# Altium footprint library Fuses.PcbLib: 86 footprints (part 1 of 6)
Each footprint in its own frame and in the unit in brackets; x right, y up, seen from the top. Pads: shape width x height; smd on the part's side, far side on the other; paste and mask are expansions set on the pad; w line width, h text height; cw(c..) or ccw(c..) is an arc to the next point about the centre after c.
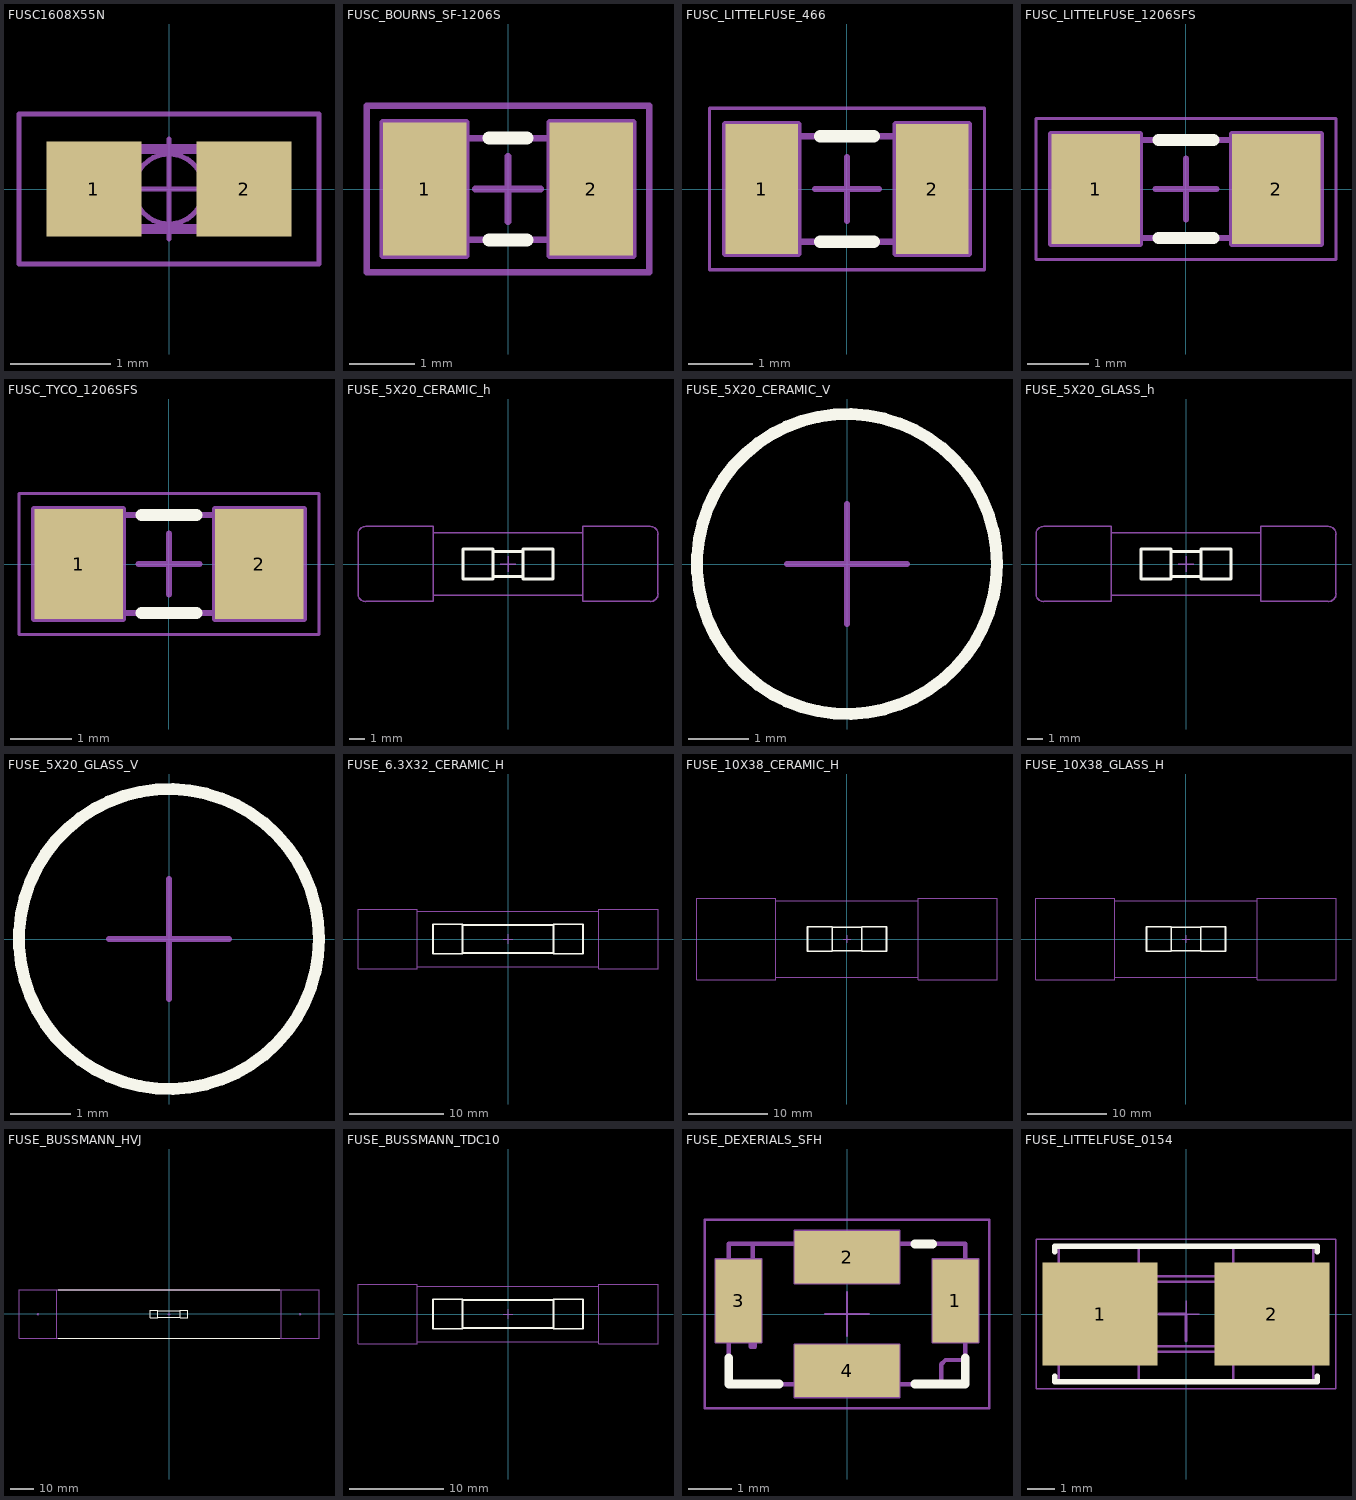
[diagram p0: the footprints below, top view; thin cyan lines are the x and y axes]

## FUSC1608X55N [mm] "Chip Fuse, 2-Leads, Body 1.6mm x 0.8mm, IPC Medium Density"
height 0.55
pads (2):
  rect 0.95x0.95 smd: 1(-0.75,0) 2(0.75,0)
Mechanical 14:
  lines w0.1: -0.8,-0.4 -0.8,0.4 0.8,0.4 0.8,-0.4 -0.8,-0.4
Mechanical 15:
  circle w0.05: c0,0 r0.35
  lines w0.05: -0.5,0 0.5,0 ; 0,-0.5 0,0.5 ; -1.5,-0.75 -1.5,0.75 1.5,0.75 1.5,-0.75 -1.5,-0.75
3D body "FUSC1608X55N.stp": height 0.5, standoff 0, extent -0.85,-0.45 0.85,0.45

## FUSC_BOURNS_SF-1206S [mm] "1206 (3216mm), Body 3.1 x 1.55mm, SinglFuse™ SF-1206S Series"
height 0.7
pads (2):
  rect 1.27x2.03 smd: 1(-1.27,0) 2(1.27,0)
Top Overlay:
  lines w0.2: -0.285,-0.775 0.285,-0.775 ; -0.285,0.775 0.285,0.775
Mechanical 8:
  lines w0.1: -1.77,0 -1.27,0 ; -1.27,-0.5 -1.27,0 ; -1.27,0.5 -1.27,0 ; -0.77,0 -1.27,0 ; -0.5,0 0,0 ; 0,-0.5 0,0 ; 0,0.5 0,0 ; 0.5,0 0,0 ; 0.77,0 1.27,0 ; 1.27,-0.5 1.27,0 ; 1.27,0.5 1.27,0 ; 1.77,0 1.27,0 ; -1.905,-1.015 -1.905,1.015 -0.635,1.015 -0.635,-1.015 -1.905,-1.015 ; 0.635,-1.015 1.905,-1.015 1.905,1.015 0.635,1.015 0.635,-1.015
Mechanical 14:
  lines w0.1: 1.05,-0.775 1.05,0.775 ; -1.55,-0.775 1.55,-0.775 1.55,0.775 -1.55,0.775 -1.55,-0.775
Mechanical 15:
  lines w0.1: -2.155,-1.265 -2.155,1.265 2.155,1.265 2.155,-1.265 -2.155,-1.265
3D body "FUSC_BOURNS_SF-1206S.stp": height 0.61, standoff 0, extent -1.55,-0.775 1.55,0.775

## FUSC_LITTELFUSE_466 [mm] "Very Fast-Acting Surface Mount Thin Film Fuse, Size 1206, 466 Series"
height 0.66
pads (2):
  rect 1.14x2.03 smd: 1(-1.335,0) 2(1.335,0)
Top Overlay:
  lines w0.2: -0.415,-0.826 0.415,-0.826 ; -0.415,0.826 0.415,0.826
Mechanical 8:
  lines w0.1: -1.835,0 -1.335,0 ; -1.335,-0.5 -1.335,0 ; -1.335,0.5 -1.335,0 ; -0.835,0 -1.335,0 ; -0.5,0 0,0 ; 0,-0.5 0,0 ; 0,0.5 0,0 ; 0.5,0 0,0 ; 0.835,0 1.335,0 ; 1.335,-0.5 1.335,0 ; 1.335,0.5 1.335,0 ; 1.835,0 1.335,0 ; -1.905,-1.015 -1.905,1.015 -0.765,1.015 -0.765,-1.015 -1.905,-1.015 ; 0.765,-1.015 1.905,-1.015 1.905,1.015 0.765,1.015 0.765,-1.015
Mechanical 14:
  lines w0.1: -1.65,-0.726 -0.863,-0.726 -0.863,0.726 -1.65,0.726 ; 1.65,-0.726 0.863,-0.726 0.863,0.726 1.65,0.726 ; -1.65,-0.826 1.65,-0.826 1.65,-0.343 cw(c1.65,0) 1.65,0.343 1.65,0.826 -1.65,0.826 -1.65,0.343 cw(c-1.65,0) -1.65,-0.343 -1.65,-0.826
Mechanical 15:
  lines w0.05: -2.155,-1.265 -2.155,1.265 2.155,1.265 2.155,-1.265 -2.155,-1.265
3D body "FUSC_LITTELFUSE_466.stp": height 0.66, standoff 0, extent -1.65,-0.825 1.65,0.826

## FUSC_LITTELFUSE_1206SFS [mm] "1206 (3216mm) Slow-Blow Chip Fuses, Body 3.2 x 1.6mm"
height 1.17
pads (2):
  rect 1.45x1.8 smd: 1(-1.475,0) 2(1.475,0)
Top Overlay:
  lines w0.2: -0.45,-0.8 0.45,-0.8 ; -0.45,0.8 0.45,0.8
Mechanical 8:
  lines w0.1: -1.975,0 -1.475,0 ; -1.475,-0.5 -1.475,0 ; -1.475,0.5 -1.475,0 ; -0.975,0 -1.475,0 ; -0.5,0 0,0 ; 0,-0.5 0,0 ; 0,0.5 0,0 ; 0.5,0 0,0 ; 0.975,0 1.475,0 ; 1.475,-0.5 1.475,0 ; 1.475,0.5 1.475,0 ; 1.975,0 1.475,0 ; -2.2,-0.9 -0.75,-0.9 -0.75,0.9 -2.2,0.9 -2.2,-0.9 ; 0.75,-0.9 2.2,-0.9 2.2,0.9 0.75,0.9 0.75,-0.9
Mechanical 14:
  lines w0.1: -1.09,-0.8 -1.09,0.8 ; 1.09,-0.8 1.09,0.8 ; -1.6,-0.8 1.6,-0.8 1.6,0.8 -1.6,0.8 -1.6,-0.8
Mechanical 15:
  lines w0.05: -2.45,-1.15 2.45,-1.15 2.45,1.15 -2.45,1.15 -2.45,-1.15
3D body "FUSC_LITTELFUSE_1206SFS.stp": height 1.17, standoff 0, extent -1.6,-0.8 1.6,0.8

## FUSC_TYCO_1206SFS [mm] "1206 (3216mm) Slow-Blow Chip Fuses, Body 3.2 x 1.6mm"
height 1.17
pads (2):
  rect 1.45x1.8 smd: 1(-1.475,0) 2(1.475,0)
Top Overlay:
  lines w0.2: -0.45,-0.8 0.45,-0.8 ; -0.45,0.8 0.45,0.8
Mechanical 8:
  lines w0.1: -1.975,0 -1.475,0 ; -1.475,-0.5 -1.475,0 ; -1.475,0.5 -1.475,0 ; -0.975,0 -1.475,0 ; -0.5,0 0,0 ; 0,-0.5 0,0 ; 0,0.5 0,0 ; 0.5,0 0,0 ; 0.975,0 1.475,0 ; 1.475,-0.5 1.475,0 ; 1.475,0.5 1.475,0 ; 1.975,0 1.475,0 ; -2.2,-0.9 -0.75,-0.9 -0.75,0.9 -2.2,0.9 -2.2,-0.9 ; 0.75,-0.9 2.2,-0.9 2.2,0.9 0.75,0.9 0.75,-0.9
Mechanical 14:
  lines w0.1: -1.09,-0.8 -1.09,0.8 ; 1.09,-0.8 1.09,0.8 ; -1.6,-0.8 1.6,-0.8 1.6,0.8 -1.6,0.8 -1.6,-0.8
Mechanical 15:
  lines w0.05: -2.45,-1.15 2.45,-1.15 2.45,1.15 -2.45,1.15 -2.45,-1.15
3D body "FUSC_TYCO_1206SFS.stp": height 1.17, standoff 0, extent -1.6,-0.8 1.6,0.8

## FUSE_5X20_CERAMIC_h [mm] "Generic 5x20mm Cylindrical Ceramic Fuse (Horizontal Mount)"
height 5.2
Top Overlay:
  lines w0.2: -1,-0.84 1,-0.84 ; -1,0.84 1,0.84 ; -3,-1 -3,1 -1,1 -1,-1 -3,-1 ; 1,-1 3,-1 3,1 1,1 1,-1
Mechanical 8:
  lines w0.1: -0.5,0 0,0 ; 0,-0.5 0,0 ; 0,0.5 0,0 ; 0.5,0 0,0
Mechanical 14:
  lines w0.1: -5,-2.1 5,-2.1 ; -5,2.1 5,2.1 ; -10,-2 ccw(c-9.5,-2) -9.5,-2.5 -5,-2.5 -5,2.5 -9.5,2.5 ccw(c-9.5,2) -10,2 -10,-2 ; 5,-2.5 9.5,-2.5 ccw(c9.5,-2) 10,-2 10,2 ccw(c9.5,2) 9.5,2.5 5,2.5 5,-2.5
3D body "FUSE_5X20_GLASS_h_Part3.stp": height 2.65, standoff 2.35, extent -9.5,-1.25 9.5,1.25
3D body "FUSE_5X20_CERAMIC_h.stp": height 5, standoff 0, extent -10,-2.5 10,2.5

## FUSE_5X20_CERAMIC_V [mm] "Generic 5x20mm Cylindrical Ceramic Fuse (Vertical Mount)"
height 20.5
Top Overlay:
  circle w0.2: c0,0 r2.5
Mechanical 8:
  lines w0.1: -1,0 0,0 ; 0,-1 0,0 ; 0,1 0,0 ; 1,0 0,0
Mechanical 14:
  circle w0.1: c0,0 r2.5
3D body "FUSE_5X20_CERAMIC_v.stp": height 20, standoff 0, extent -2.5,-2.497 2.5,2.498
3D body "FUSE_5X20_GLASS_v_Part3.stp": height 19.5, standoff 0.5, extent -1.25,-0.15 1.25,0.15

## FUSE_5X20_GLASS_h [mm] "Generic 5x20mm Cylindrical Glass Fuse (Horizontal Mount)"
height 5.2
Top Overlay:
  lines w0.2: -1,-0.84 1,-0.84 ; -1,0.84 1,0.84 ; -3,-1 -1,-1 -1,1 -3,1 -3,-1 ; 1,-1 1,1 3,1 3,-1 1,-1
Mechanical 8:
  lines w0.1: -0.5,0 0,0 ; 0,-0.5 0,0 ; 0,0.5 0,0 ; 0.5,0 0,0
Mechanical 14:
  lines w0.1: -5,-2.1 5,-2.1 ; -5,2.1 5,2.1 ; -10,-2 ccw(c-9.5,-2) -9.5,-2.5 -5,-2.5 -5,2.5 -9.5,2.5 ccw(c-9.5,2) -10,2 -10,-2 ; 5,-2.5 5,2.5 9.5,2.5 cw(c9.5,2) 10,2 10,-2 cw(c9.5,-2) 9.5,-2.5 5,-2.5
3D body "FUSE_5X20_GLASS_h_Part1.stp": height 5, standoff 0, extent -10,-2.5 10,2.5
3D body "FUSE_5X20_GLASS_h_Part2.stp": height 4.6, standoff 0.4, extent -9.5,-2.1 9.5,2.1
3D body "FUSE_5X20_GLASS_h_Part3.stp": height 2.65, standoff 2.35, extent -9.5,-1.25 9.5,1.25

## FUSE_5X20_GLASS_V [mm] "Generic 5x20mm Cylindrical Glass Fuse (Vertical Mount)"
height 20.5
Top Overlay:
  circle w0.2: c0,0 r2.5
Mechanical 8:
  lines w0.1: -1,0 0,0 ; 0,-1 0,0 ; 0,1 0,0 ; 1,0 0,0
Mechanical 14:
  circle w0.1: c0,0 r2.5
3D body "FUSE_5X20_GLASS_v_Part3.stp": height 19.5, standoff 0.5, extent -1.25,-0.15 1.25,0.15
3D body "FUSE_5X20_GLASS_v_Part2.stp": height 19.5, standoff 0.5, extent -2.1,-2.1 2.1,2.1
3D body "FUSE_5X20_GLASS_v_Part1.stp": height 20, standoff 0, extent -2.5,-2.5 2.5,2.5

## FUSE_6.3X32_CERAMIC_H [mm] "6.3x32mm Cylindrical Ceramic Fuse - Horizontal Mount"
height 6.3
Top Overlay:
  lines w0.2: -4.85,-1.475 4.85,-1.475 ; -4.85,1.475 4.85,1.475 ; -8,-1.575 -4.85,-1.575 -4.85,1.575 -8,1.575 -8,-1.575 ; 4.85,-1.575 8,-1.575 8,1.575 4.85,1.575 4.85,-1.575
Mechanical 8:
  lines w0.1: -0.5,0 0,0 ; 0,-0.5 0,0 ; 0,0.5 0,0 ; 0.5,0 0,0
Mechanical 14:
  lines w0.1: -9.7,-2.95 9.7,-2.95 ; -9.7,2.95 9.7,2.95 ; -16,-3.15 -9.7,-3.15 -9.7,3.15 -16,3.15 -16,-3.15 ; 9.7,-3.15 16,-3.15 16,3.15 9.7,3.15 9.7,-3.15
3D body "FUSE_6.3X32_CERAMIC_H_Part1.stp": height 6.29, standoff 0.01, extent -16,-3.125 16,3.15
3D body "FUSE_6.3X32_CERAMIC_H_Part2.stp": height 6.09, standoff 0.21, extent -9.7,-2.927 9.7,2.95

## FUSE_10X38_CERAMIC_H [mm] "10x38mm Cylindrical Ceramic Fuse"
height 10.3
Top Overlay:
  lines w0.2: -1.85,-1.475 1.85,-1.475 ; -1.85,1.475 1.85,1.475 ; -5,-1.575 -1.85,-1.575 -1.85,1.575 -5,1.575 -5,-1.575 ; 1.85,-1.575 5,-1.575 5,1.575 1.85,1.575 1.85,-1.575
Mechanical 8:
  lines w0.1: -0.5,0 0,0 ; 0,-0.5 0,0 ; 0,0.5 0,0 ; 0.5,0 0,0
Mechanical 14:
  lines w0.1: -9,-4.85 9,-4.85 ; -9,4.85 9,4.85 ; -19,-5.15 -19,5.15 -9,5.15 -9,-5.15 -19,-5.15 ; 9,-5.15 19,-5.15 19,5.15 9,5.15 9,-5.15
3D body "FUSE_10X38_H_Part1.stp": height 10.3, standoff 0, extent -19,-5.15 19,5.15
3D body "FUSE_10X38_H_Part2.stp": height 10, standoff 0.3, extent -9,-4.85 9,4.85

## FUSE_10X38_GLASS_H [mm] "10x38mm Cylindrical Glass Fuse"
height 10.3
Top Overlay:
  lines w0.2: -1.85,-1.475 1.85,-1.475 ; -1.85,1.475 1.85,1.475 ; -5,-1.575 -1.85,-1.575 -1.85,1.575 -5,1.575 -5,-1.575 ; 1.85,-1.575 5,-1.575 5,1.575 1.85,1.575 1.85,-1.575
Mechanical 8:
  lines w0.1: -0.5,0 0,0 ; 0,-0.5 0,0 ; 0,0.5 0,0 ; 0.5,0 0,0
Mechanical 14:
  lines w0.1: -9,-4.85 9,-4.85 ; -9,4.85 9,4.85 ; -19,-5.15 -19,5.15 -9,5.15 -9,-5.15 -19,-5.15 ; 9,-5.15 19,-5.15 19,5.15 9,5.15 9,-5.15
3D body "FUSE_10X38_H_Part1.stp": height 10.3, standoff 0, extent -19,-5.15 19,5.15
3D body "FUSE_10X38_H_Part2.stp": height 10, standoff 0.3, extent -9,-4.85 9,4.85

## FUSE_BUSSMANN_HVJ [mm] "20.3x126.9mm (0.81\"x5\") Cylindrical High Voltage Fuse, HV Series"
height 20.6
Top Overlay:
  lines w0.2: -46.78,-10.3 46.78,-10.3 ; -46.78,10.3 46.78,10.3 ; -4.85,-1.475 4.85,-1.475 ; -4.85,1.475 4.85,1.475 ; -8,-1.575 -4.85,-1.575 -4.85,1.575 -8,1.575 -8,-1.575 ; 4.85,-1.575 8,-1.575 8,1.575 4.85,1.575 4.85,-1.575
Mechanical 8:
  lines w0.1: -0.5,0 0,0 ; 0,-0.5 0,0 ; 0,0.5 0,0 ; 0.5,0 0,0 ; 55.096,-0.354 55.45,0 ; 55.096,0.354 55.45,0 ; 55.804,-0.354 55.45,0 ; 55.804,0.354 55.45,0 ; -55.45,0 -55.096,0.354 -55.45,0 ; -55.45,0 -55.096,-0.354 -55.45,0 ; -55.45,0 -55.804,0.354 -55.45,0 ; -55.45,0 -55.804,-0.354 -55.45,0
Mechanical 14:
  lines w0.1: -47.45,-10.3 -47.45,10.3 ; 47.45,-10.3 47.45,10.3 ; -63.45,-10.3 -63.45,10.3 63.45,10.3 63.45,-10.3 -63.45,-10.3
3D body "FUSE_BUSSMANN_HVJ.stp": height 27.73, standoff 7.13, extent -63.45,-10.3 63.45,10.3

## FUSE_BUSSMANN_TDC10 [mm] "6.3x32mm Cylindrical Fuse, TDC10 Series"
height 6.3
Top Overlay:
  lines w0.2: -4.85,-1.475 4.85,-1.475 ; -4.85,1.475 4.85,1.475 ; -8,-1.575 -4.85,-1.575 -4.85,1.575 -8,1.575 -8,-1.575 ; 4.85,-1.575 8,-1.575 8,1.575 4.85,1.575 4.85,-1.575
Mechanical 8:
  lines w0.1: -0.5,0 0,0 ; 0,-0.5 0,0 ; 0,0.5 0,0 ; 0.5,0 0,0
Mechanical 14:
  lines w0.1: -9.7,-2.95 9.7,-2.95 ; -9.7,2.95 9.7,2.95 ; -16,-3.15 -9.7,-3.15 -9.7,3.15 -16,3.15 -16,-3.15 ; 9.7,-3.15 16,-3.15 16,3.15 9.7,3.15 9.7,-3.15
3D body "FUSE_BUSSMANN_TDC10_Part1.stp": height 6.3, standoff 0, extent -16,-3.15 16,3.15
3D body "FUSE_BUSSMANN_TDC10_Part2.stp": height 6.1, standoff 0.2, extent -9.7,-2.95 9.7,2.95

## FUSE_DEXERIALS_SFH [mm] "SCP Surface Mounted Fuse,  4-Leads, Body 5.4x3.2mm"
height 1.35
pads (4):
  rect 1.05x1.9 smd: 1(2.475,0.3) 3(-2.475,0.3)
  rect 2.4x1.2 smd: 2(0,1.3) 4(0,-1.3)
Top Overlay:
  lines w0.2: -2.7,-1 -2.7,-1.6 -1.55,-1.6 ; 1.55,-1.6 2.7,-1.6 2.7,-1 ; 1.55,1.6 1.95,1.6
Mechanical 8:
  lines w0.05: -2.975,0.3 -2.475,0.3 ; -2.475,-0.2 -2.475,0.3 ; -2.475,0.8 -2.475,0.3 ; -1.975,0.3 -2.475,0.3 ; -0.5,-1.3 0,-1.3 ; -0.5,0 0,0 ; -0.5,1.3 0,1.3 ; 0,-1.8 0,-1.3 ; 0,-0.8 0,-1.3 ; 0,-0.5 0,0 ; 0,0.5 0,0 ; 0,0.8 0,1.3 ; 0,1.8 0,1.3 ; 0.5,-1.3 0,-1.3 ; 0.5,0 0,0 ; 0.5,1.3 0,1.3 ; 1.975,0.3 2.475,0.3 ; 2.475,-0.2 2.475,0.3 ; 2.475,0.8 2.475,0.3 ; 2.975,0.3 2.475,0.3 ; -3,-0.65 -1.95,-0.65 -1.95,1.25 -3,1.25 -3,-0.65 ; -1.2,-1.9 -1.2,-0.7 1.2,-0.7 1.2,-1.9 -1.2,-1.9 ; -1.2,0.7 -1.2,1.9 1.2,1.9 1.2,0.7 -1.2,0.7 ; 1.95,-0.65 1.95,1.25 3,1.25 3,-0.65 1.95,-0.65
Mechanical 14:
  lines w0.1: -2.65,1.05 -2.25,1.05 -2.15,1.15 -2.15,1.55 ; 2.15,-1.55 2.15,-1.15 2.25,-1.05 2.65,-1.05 ; -2.7,-1.6 -2.7,0.325 ccw(c-2.7,0.525) -2.65,0.331 -2.65,0.719 ccw(c-2.7,0.525) -2.7,0.725 -2.7,1.6 -0.2,1.6 ccw(c0,1.6) -0.194,1.55 0.194,1.55 ccw(c0,1.6) 0.2,1.6 2.7,1.6 2.7,0.725 ccw(c2.7,0.525) 2.65,0.719 2.65,0.331 ccw(c2.7,0.525) 2.7,0.325 2.7,-1.6 0.2,-1.6 ccw(c0,-1.6) 0.194,-1.55 -0.194,-1.55 ccw(c0,-1.6) -0.2,-1.6 -2.7,-1.6 ; -2.2,-0.75 -2.1,-0.75 -2.1,0.75 -2.2,0.75 -2.2,-0.75
Mechanical 15:
  lines w0.05: -3.25,-2.15 3.25,-2.15 3.25,2.15 -3.25,2.15 -3.25,-2.15
3D body "FUSE_DEXERIALS_SFH.stp": height 1.35, standoff 0, extent -2.7,-1.6 2.7,1.6

## FUSE_LITTELFUSE_0154 [mm] "SMF Fuse and Holder, 2-Leads, Body 9.73x5.03mm"
height 3.81
pads (2):
  rect 4.245x3.81 smd: 1(-3.188,0) 2(3.188,0)
Top Overlay:
  lines w0.2: -4.865,-2.3 -4.865,-2.515 4.865,-2.515 4.865,-2.3 ; -4.865,2.3 -4.865,2.515 4.865,2.515 4.865,2.3
Mechanical 8:
  lines w0.1: -4.188,0 -3.188,0 -3.188,-1 ; -1,0 0,0 0,-1 ; 3.188,-1 3.188,0 4.188,0
Mechanical 14:
  lines w0.1: -4.715,-1.001 -4.865,-1 -4.865,1 -4.715,1 ; -1.75,-2.515 -1.75,-1.4 ; -1.75,1.4 -1.75,2.515 ; -1.6,-1.195 1.6,-1.195 ; -1.6,1.195 1.6,1.195 ; 1.75,-2.515 1.75,-1.415 ; 1.75,1.4 1.75,2.515 ; 4.715,-1 4.865,-1 4.865,1 4.715,1 ; -4.715,-2.515 -4.715,2.515 4.715,2.515 4.715,-2.515 -4.715,-2.515 ; -3.15,-1.4 -3.15,1.4 3.15,1.4 3.15,-1.4 -3.15,-1.4 ; -3.05,-1.145 ccw(c-2.85,-1.145) -2.85,-1.345 -1.6,-1.345 -1.6,1.345 -2.85,1.345 ccw(c-2.85,1.145) -3.05,1.145 -3.05,-1.145 ; 1.6,-1.345 2.85,-1.345 ccw(c2.85,-1.145) 3.05,-1.145 3.05,1.145 ccw(c2.85,1.145) 2.85,1.345 1.6,1.345 1.6,-1.345
Mechanical 15:
  lines w0.05: -0.5,0 0.5,0 ; 0,-0.5 0,0.5 ; -5.56,-2.765 5.56,-2.765 5.56,2.765 -5.56,2.765 -5.56,-2.765
3D body "FUSE_LITTELFUSE_0154.stp": height 3.81, standoff 0, extent -4.865,-2.515 4.865,2.515